# Altium schematic symbol library Digi_Key.SchLib: 15 symbols
Pins are listed as number, name and electrical type; pins without a type are passive.

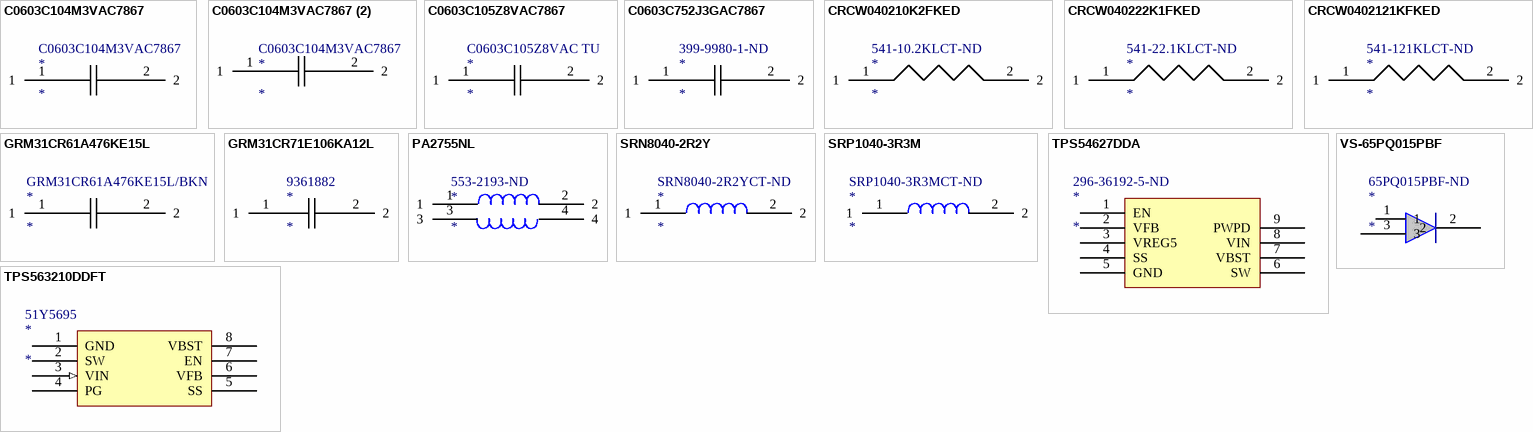
[diagram p0: symbols C0603C104M3VAC7867 to VS-65PQ015PBF]

## C0603C104M3VAC7867
designator *  Supplier Part Number 1: C0603C104M3VAC7867
Cap Ceramic 0.1uF 25V Y5V 20% SMD 0603 85C Paper T/R; Manufacturer: KEMET; Capacitance: 100nF; Supplier 1: Avnet; Manufacturer Part Number: C0603C104M3VAC7867; Stock 1: 244000; Pricing 1: 12000=0.0073, 92000=0.0062, 180000=0.0053 (USD); Mount: Surface Mount; Case/Package: 0603; Dielectric Material: Ceramic; Min Operating Temperature: -30°C; Max Operating Temperature: 85°C; Tolerance: 20%; Packaging: Tape and Reel; Dielectric: Y5V; Voltage Rating (DC): 25V; Length: 1.6mm; Height: 0.8mm; Depth: 0.8mm; Radiation Hardening: No; Lead Free: Lead Free; ComponentLink1URL: http://components.arrow.com/part/dataview/0323_00069656; ComponentLink1Description: http://components.arrow.com/part/dataview/0323_00069656; ComponentLink2URL: http://www.kemet.com/kemet/web/homepage/kechome.nsf/weben/C4DA2DA1D1C9D3C3CA2570A50016092D/$file/KEM_C1002_X7R_SMD.pdf; ComponentLink2Description: http://www.kemet.com/kemet/web/homepage/kechome.nsf/weben/C4DA2DA1D1C9D3C3CA2570A50016092D/$file/KEM_C1002_X7R_SMD.pdf
footprint 0603 (Chip Inductor, Body 0.6x0.3mm, IPC High Density)
pins: 1, 2

## C0603C104M3VAC7867 (2)
designator *  Supplier Part Number 1: C0603C104M3VAC7867
Cap Ceramic 0.1uF 25V Y5V 20% SMD 0603 85C Paper T/R; Manufacturer: KEMET; Capacitance: 100nF; Supplier 1: Avnet; Manufacturer Part Number: C0603C104M3VAC7867; Stock 1: 244000; Pricing 1: 12000=0.0073, 92000=0.0062, 180000=0.0053 (USD); Mount: Surface Mount; Case/Package: 0603; Dielectric Material: Ceramic; Min Operating Temperature: -30°C; Max Operating Temperature: 85°C; Tolerance: 20%; Packaging: Tape and Reel; Dielectric: Y5V; Voltage Rating (DC): 25V; Length: 1.6mm; Height: 0.8mm; Depth: 0.8mm; Radiation Hardening: No; Lead Free: Lead Free; ComponentLink1URL: http://components.arrow.com/part/dataview/0323_00069656; ComponentLink1Description: http://components.arrow.com/part/dataview/0323_00069656; ComponentLink2URL: http://www.kemet.com/kemet/web/homepage/kechome.nsf/weben/C4DA2DA1D1C9D3C3CA2570A50016092D/$file/KEM_C1002_X7R_SMD.pdf; ComponentLink2Description: http://www.kemet.com/kemet/web/homepage/kechome.nsf/weben/C4DA2DA1D1C9D3C3CA2570A50016092D/$file/KEM_C1002_X7R_SMD.pdf
footprint 0603 (Chip Inductor, Body 0.6x0.3mm, IPC High Density)
pins: 1, 2

## C0603C105Z8VAC7867
designator *  Supplier Part Number 1: C0603C105Z8VAC TU
Cap Ceramic 1uF 10V Y5V -20% to 80% SMD 0603 85C T/R; Manufacturer: KEMET; Manufacturer Part Number: C0603C105Z8VAC7867; Supplier 1: Avnet; Stock 1: 144000; Pricing 1: 4000=0.007, 8000=0.0059, 16000=0.0053, 24000=0.0049, 40000=0.0048 (USD); Mount: Surface Mount; Case/Package: 0603; Dielectric Material: Ceramic; Min Operating Temperature: -30°C; Max Operating Temperature: 85°C; Packaging: Tape and Reel; Capacitance: 1uF; Tolerance: 80%; Dielectric: Y5V; Voltage Rating (DC): 10V; Length: 1.6mm; Height: 0.8mm; Depth: 0.8mm; Radiation Hardening: No; Lead Free: Lead Free; ComponentLink1URL: https://datasheet.ciiva.com/18231/getdatasheetpartid-38562-18231271.pdf; ComponentLink1Description: https://datasheet.ciiva.com/18231/getdatasheetpartid-38562-18231271.pdf
footprint 0603 (Chip Inductor, Body 0.6x0.3mm, IPC High Density)
pins: 1, 2

## C0603C752J3GAC7867
designator *  Supplier Part Number 1: 399-9980-1-ND
CAP CER 7500PF 25V C0G/NP0 0603; Manufacturer: KEMET; Manufacturer Part Number: C0603C752J3GAC7867; Tolerance: ±5%; Temperature Coefficient: C0G, NP0; Notification: Current market demand for these product types have resulted in fluctuating and extending lead times. Lead times may differ.; Supplier 1: Digi-Key; RoHS: RoHS Compliant; Category: Capacitors; Stock 1: 36935; Pricing 1: 1=0.47, 10=0.328, 100=0.197, 500=0.14774, 1000=0.12475 (USD); Packaging: Cut Tape (CT); Part Status: Active; Voltage - Rated: 25V; Operating Temperature: -55°C ~ 125°C; Features: Low ESL; Ratings: -; Applications: General Purpose; Failure Rate: -; Mounting Type: Surface Mount, MLCC; Package / Case: 0603 (1608 Metric); Size / Dimension: 0.063" L x 0.032" W (1.60mm x 0.80mm); Height - Seated (Max): -; Thickness (Max): 0.034" (0.87mm); Lead Spacing: -; Lead Style: -; ComponentLink1URL: https://search.kemet.com/component-edge/download/datasheet/C0603C752J3GAC7867.pdf; ComponentLink1Description: https://search.kemet.com/component-edge/download/datasheet/C0603C752J3GAC7867.pdf
footprint 0603 (Chip Inductor, Body 0.6x0.3mm, IPC High Density)
pins: 1, 2

## CRCW040210K2FKED
designator *  Supplier Part Number 1: 541-10.2KLCT-ND
RES SMD 10.2K OHM 1% 1/16W 0402; Manufacturer: Vishay Dale; Manufacturer Part Number: CRCW040210K2FKED; Power (Watts): 0.063W, 1/16W; Temperature Coefficient: ±100ppm/°C; Supplier 1: Digi-Key; RoHS: RoHS Compliant; Category: Resistors; Stock 1: 5773; Pricing 1: 1=0.1, 10=0.044, 100=0.0178, 1000=0.00802, 2500=0.00696, 5000=0.00575 (USD); Packaging: Cut Tape (CT); Part Status: Active; Tolerance: ±1%; Composition: Thick Film; Features: Automotive AEC-Q200; Operating Temperature: -55°C ~ 155°C; Package / Case: 0402 (1005 Metric); Supplier Device Package: 0402; Size / Dimension: 0.039" L x 0.020" W (1.00mm x 0.50mm); Height - Seated (Max): 0.016" (0.40mm); Failure Rate: -; ComponentLink1URL: http://www.vishay.com/docs/20035/dcrcwe3.pdf; ComponentLink1Description: http://www.vishay.com/docs/20035/dcrcwe3.pdf
footprint 0402-CAP
pins: 1, 2

## CRCW040222K1FKED
designator *  Supplier Part Number 1: 541-22.1KLCT-ND
RES SMD 22.1K OHM 1% 1/16W 0402; Manufacturer: Vishay Dale; Manufacturer Part Number: CRCW040222K1FKED; Power (Watts): 0.063W, 1/16W; Temperature Coefficient: ±100ppm/°C; Supplier 1: Digi-Key; RoHS: RoHS Compliant; Category: Resistors; Stock 1: 7344; Pricing 1: 1=0.1, 10=0.044, 100=0.0178, 1000=0.00802, 2500=0.00696, 5000=0.00575 (USD); Packaging: Cut Tape (CT); Part Status: Active; Tolerance: ±1%; Composition: Thick Film; Features: Automotive AEC-Q200; Operating Temperature: -55°C ~ 155°C; Package / Case: 0402 (1005 Metric); Supplier Device Package: 0402; Size / Dimension: 0.039" L x 0.020" W (1.00mm x 0.50mm); Height - Seated (Max): 0.016" (0.40mm); Failure Rate: -; ComponentLink1URL: http://www.vishay.com/docs/20035/dcrcwe3.pdf; ComponentLink1Description: http://www.vishay.com/docs/20035/dcrcwe3.pdf
footprint 0402 (Chip Capacitor, Body 1.0x0.5mm, IPC High Density)
pins: 1, 2

## CRCW0402121KFKED
designator *  Supplier Part Number 1: 541-121KLCT-ND
RES SMD 121K OHM 1% 1/16W 0402; Manufacturer: Vishay Dale; Manufacturer Part Number: CRCW0402121KFKED; Power (Watts): 0.063W, 1/16W; Temperature Coefficient: ±100ppm/°C; Supplier 1: Digi-Key; RoHS: RoHS Compliant; Category: Resistors; Stock 1: 40528; Pricing 1: 1=0.1, 10=0.044, 100=0.0178, 1000=0.00802, 2500=0.00696, 5000=0.00575 (USD); Packaging: Cut Tape (CT); Part Status: Active; Tolerance: ±1%; Composition: Thick Film; Features: Automotive AEC-Q200; Operating Temperature: -55°C ~ 155°C; Package / Case: 0402 (1005 Metric); Supplier Device Package: 0402; Size / Dimension: 0.039" L x 0.020" W (1.00mm x 0.50mm); Height - Seated (Max): 0.016" (0.40mm); Failure Rate: -; ComponentLink1URL: http://www.vishay.com/docs/20035/dcrcwe3.pdf; ComponentLink1Description: http://www.vishay.com/docs/20035/dcrcwe3.pdf
footprint 0402 (Chip Capacitor, Body 1.0x0.5mm, IPC High Density)
pins: 1, 2

## GRM31CR61A476KE15L
designator *  Supplier Part Number 1: GRM31CR61A476KE15L/BKN
Multilayer Ceramic Capacitors MLCC - SMD/SMT 1206 47uF 10Vdc X5R +/-10%; Manufacturer: Murata; Manufacturer Part Number: GRM31CR61A476KE15L; Tolerance: 10%; Voltage Rating: 10V; Supplier 1: Avnet; Stock 1: 0; Pricing 1: 1=0.5079, 40=0.4619, 100=0.3049, 200=0.3039, 500=0.2249 (USD); Mount: Surface Mount; Case/Package: 1206; Case Code (Metric): 3216; Case Code (Imperial): 1206; Material: Ceramic; Min Operating Temperature: -55°C; Max Operating Temperature: 85°C; Package Quantity: 2000; Packaging: Tape and Reel; Capacitance: 47uF; Voltage Rating (DC): 10V; Dielectric: X5R; Termination: SMD/SMT; Voltage: 10V; Length: 3.2mm; Height: 1.6mm; Width: 1.6mm; Thickness: 0.071inch; Depth: 1.6mm; REACH SVHC: No SVHC; Lead Free: Lead Free; ComponentLink1URL: https://datasheet.ciiva.com/41860/partnumbering-e-01-41860758.pdf; ComponentLink1Description: https://datasheet.ciiva.com/41860/partnumbering-e-01-41860758.pdf; ComponentLink2URL: https://datasheet.ciiva.com/29536/grm31cr61a476ke15-01-29536840.pdf; ComponentLink2Description: https://datasheet.ciiva.com/29536/grm31cr61a476ke15-01-29536840.pdf; ComponentLink3URL: https://datasheet.ciiva.com/46445/1769893-46445004.pdf; ComponentLink3Description: https://datasheet.ciiva.com/46445/1769893-46445004.pdf; ComponentLink4URL: https://datasheet.ciiva.com/46445/1769893-46445005.pdf; ComponentLink4Description: https://datasheet.ciiva.com/46445/1769893-46445005.pdf; ComponentLink5URL: https://datasheet.ciiva.com/13337/product-13337807.pdf; ComponentLink5Description: https://datasheet.ciiva.com/13337/product-13337807.pdf
footprint INDC3216 (Chip Inductor, Body 3.2x1.6mm, IPC High Density)
pins: 1, 2

## GRM31CR71E106KA12L
designator *  Supplier Part Number 1: 9361882
Cap Ceramic 10uF 25V X7R 10% SMD 1206 125C T/R; Manufacturer: Murata; Manufacturer Part Number: GRM31CR71E106KA12L; Supplier 1: Future Electronics; Stock 1: 86000; Pricing 1: 2000=0.38 (USD); Mount: Surface Mount; Case/Package: 1206; Number of Pins: 2; Case Code (Imperial): 1206; Case Code (Metric): 3216; Material: Ceramic; Min Operating Temperature: -55°C; Max Operating Temperature: 125°C; Capacitance: 10uF; Tolerance: 10%; Dielectric: X7R; Voltage Rating: 25V; Voltage Rating (DC): 25V; Packaging: Tape and Reel; Package Quantity: 1; Termination: SMD/SMT; Voltage: 25V; Length: 3.2mm; Height: 1.6mm; Width: 1.6mm; Thickness: 0.071inch; Depth: 1.6mm; Radiation Hardening: No; REACH SVHC: No SVHC; Lead Free: Lead Free; ComponentLink1URL: https://datasheet.ciiva.com/5418/product-5418961.pdf; ComponentLink1Description: https://datasheet.ciiva.com/5418/product-5418961.pdf; ComponentLink2URL: https://datasheet.ciiva.com/22746/415311-22746465.pdf; ComponentLink2Description: https://datasheet.ciiva.com/22746/415311-22746465.pdf; ComponentLink3URL: https://datasheet.ciiva.com/22703/1747484-22703378.pdf; ComponentLink3Description: https://datasheet.ciiva.com/22703/1747484-22703378.pdf; ComponentLink4URL: https://datasheet.ciiva.com/11789/0900766b80ef921d-11789064.pdf; ComponentLink4Description: https://datasheet.ciiva.com/11789/0900766b80ef921d-11789064.pdf; ComponentLink5URL: https://datasheet.ciiva.com/16210/partnumbering-e-01-16210776.pdf; ComponentLink5Description: https://datasheet.ciiva.com/16210/partnumbering-e-01-16210776.pdf; ComponentLink6URL: https://datasheet.ciiva.com/14116/grmseries-highdielectrictype-eng-14116377.pdf; ComponentLink6Description: https://datasheet.ciiva.com/14116/grmseries-highdielectrictype-eng-14116377.pdf; ComponentLink7URL: https://datasheet.ciiva.com/6264/partnumbering-e-01-6264458.pdf; ComponentLink7Description: https://datasheet.ciiva.com/6264/partnumbering-e-01-6264458.pdf; ComponentLink8URL: https://datasheet.ciiva.com/3777/4378grm31cr71e106ka1223-3777275.pdf; ComponentLink8Description: https://datasheet.ciiva.com/3777/4378grm31cr71e106ka1223-3777275.pdf; ComponentLink9URL: https://datasheet.ciiva.com/22774/415311-22774043.pdf; ComponentLink9Description: https://datasheet.ciiva.com/22774/415311-22774043.pdf; ComponentLink10URL: https://datasheet.ciiva.com/6264/partnumbering-e-01-6264460.pdf; ComponentLink10Description: https://datasheet.ciiva.com/6264/partnumbering-e-01-6264460.pdf; ComponentLink11URL: https://datasheet.ciiva.com/22774/415311-22774044.pdf; ComponentLink11Description: https://datasheet.ciiva.com/22774/415311-22774044.pdf; ComponentLink12URL: https://datasheet.ciiva.com/6264/partnumbering-e-01-6264462.pdf; ComponentLink12Description: https://datasheet.ciiva.com/6264/partnumbering-e-01-6264462.pdf; ComponentLink13URL: https://datasheet.ciiva.com/29199/454935-da-01-en-vs-kondensator-1206-29199424.pdf; ComponentLink13Description: https://datasheet.ciiva.com/29199/454935-da-01-en-vs-kondensator-1206-29199424.pdf; ComponentLink14URL: https://datasheet.ciiva.com/29202/451104-da-01-de-vs-chip-kond-1206-10-0-uf-10pr-25-0v-x7r-29202596.pdf; ComponentLink14Description: https://datasheet.ciiva.com/29202/451104-da-01-de-vs-chip-kond-1206-10-0-uf-10pr-25-0v-x7r-29202596.pdf
footprint INDC3216 (Chip Inductor, Body 3.2x1.6mm, IPC High Density)
pins: 1, 2

## PA2755NL
designator *  Supplier Part Number 1: 553-2193-ND
COMMON MODE CHOKE 14A 2LN SMD; Manufacturer: Pulse Electronics Power; Manufacturer Part Number: PA2755NL; Number of Lines: 2; DC Resistance (DCR) (Max): 1.95 mOhm; Supplier 1: Digi-Key; RoHS: RoHS Compliant; Category: Filters; Stock 1: 1352; Pricing 1: 1=3.45, 10=3.163, 100=2.07, 500=1.84, 1000=1.725, 2500=1.6675 (USD); Packaging: Tube; Part Status: Active; Filter Type: -; Current Rating (Max): 14A; Voltage Rating - DC: -; Voltage Rating - AC: -; Operating Temperature: -40°C ~ 130°C; Ratings: -; Approvals: -; Features: -; Mounting Type: Surface Mount; Size / Dimension: 0.750" L x 0.815" W (19.05mm x 20.70mm); Height (Max): 0.440" (11.18mm); Package / Case: Horizontal, 4 PC Pad; ComponentLink1URL: http://productfinder.pulseeng.com/products/datasheets/P688.pdf; ComponentLink1Description: http://productfinder.pulseeng.com/products/datasheets/P688.pdf
footprint Makeni (DFN, 4-Leads, Body 12.50x20.50mm, Pitch 17.02mm, IPC Medium Density)
pins: 1, 2, 3, 4

## SRN8040-2R2Y
designator *  Supplier Part Number 1: SRN8040-2R2YCT-ND
FIXED IND 2.2UH 6.3A 13 MOHM SMD; Manufacturer: Bourns Inc.; Manufacturer Part Number: SRN8040-2R2Y; Material - Core: Ferrite; Tolerance: ±30%; Shielding: Semi-Shielded; DC Resistance (DCR): 13 mOhm Max; Q @ Freq: 13 @ 7.96MHz; Supplier 1: Digi-Key; RoHS: RoHS Compliant; Category: Inductors, Coils, Chokes; Stock 1: 10441; Pricing 1: 1=0.63, 10=0.547, 100=0.391, 500=0.32844 (USD); Packaging: Cut Tape (CT); Part Status: Active; Type: Wirewound; Ratings: -; Operating Temperature: -40°C ~ 125°C; Mounting Type: Surface Mount; Package / Case: Nonstandard; Supplier Device Package: -; Size / Dimension: 0.315" L x 0.315" W (8.00mm x 8.00mm); Height - Seated (Max): 0.157" (4.00mm); ComponentLink1URL: http://www.bourns.com/docs/Product-Datasheets/SRN8040.pdf; ComponentLink1Description: http://www.bourns.com/docs/Product-Datasheets/SRN8040.pdf
footprint SRN8040 (Chip Inductor, 2-Leads, Body 8.20x8.15mm, IPC Medium Density)
pins: 1, 2

## SRP1040-3R3M
designator *  Supplier Part Number 1: SRP1040-3R3MCT-ND
FIXED IND 3.3UH 10A 10 MOHM SMD; Manufacturer: Bourns Inc.; Manufacturer Part Number: SRP1040-3R3M; Material - Core: Iron; Tolerance: ±20%; Shielding: Shielded; DC Resistance (DCR): 10 mOhm Max; Supplier 1: Digi-Key; RoHS: RoHS Compliant; Category: Inductors, Coils, Chokes; Stock 1: 575; Pricing 1: 1=1.43, 10=1.32, 100=0.9237 (USD); Packaging: Cut Tape (CT); Part Status: Active; Type: -; Q @ Freq: -; Ratings: -; Operating Temperature: -55°C ~ 150°C; Mounting Type: Surface Mount; Package / Case: Nonstandard; Supplier Device Package: -; Size / Dimension: 0.465" L x 0.413" W (11.80mm x 10.50mm); Height - Seated (Max): 0.165" (4.20mm); ComponentLink1URL: http://www.bourns.com/docs/Product-Datasheets/SRP1040.pdf; ComponentLink1Description: http://www.bourns.com/docs/Product-Datasheets/SRP1040.pdf
footprint SRP1040 (Chip Inductor, 2-Leads, Body 11.00x10.00mm, IPC Medium Density)
pins: 1, 2

## TPS54627DDA
designator *  Supplier Part Number 1: 296-36192-5-ND
IC REG BUCK ADJ 6A SYNC 8SOPWR; Manufacturer: Texas Instruments; Manufacturer Part Number: TPS54627DDA; Function: Step-Down; Output Configuration: Positive; Output Type: Adjustable; Number of Outputs: 1; Voltage - Input (Min): 4.5V; Voltage - Input (Max): 18V; Voltage - Output (Min/Fixed): 0.765V; Voltage - Output (Max): 5.5V; Frequency - Switching: 650kHz; Synchronous Rectifier: Yes; Supplier 1: Digi-Key; RoHS: RoHS Compliant; Category: Integrated Circuits (ICs); Stock 1: 282; Pricing 1: 1=2.94, 10=2.639, 100=2.1626, 500=1.84094, 1000=1.5526 (USD); Packaging: Tube; Part Status: Active; Topology: Buck; Current - Output: 6A; Operating Temperature: -40°C ~ 85°C (TA); Mounting Type: Surface Mount; Package / Case: 8-PowerSOIC (0.154", 3.90mm Width); Supplier Device Package: 8-SO PowerPad; Base Part Number: TPS54627; ComponentLink1URL: http://www.ti.com/lit/ds/symlink/tps54627.pdf; ComponentLink1Description: http://www.ti.com/lit/ds/symlink/tps54627.pdf
footprint SOIC127P600X170_HS-9N (SOIC, 8-Leads, Body 4.90x4.90mm, Pitch 1.27mm, Thermal Pad 3.10x2.40mm, IPC Medium Density)
pins: 1 EN, 2 VFB, 3 VREG5, 4 SS, 5 GND, 6 SW, 7 VBST, 8 VIN, 9 PWPD

## TPS563210DDFT
designator *  Supplier Part Number 1: 51Y5695
TEXAS INSTRUMENTS - TPS563210DDFT - DC/DC CONV, SYNC BUCK, 650KHZ, SOT-23-8; Topology: Synchronous Buck (Step Down); Input Voltage Min: 4.5; Input Voltage Max: 17; No. of Outputs: 1; DC / DC Converter IC Case: SOT-23; No. of Pins: 8; Output Current: 3; Supplier 1: Newark; Manufacturer: TEXAS INSTRUMENTS; Manufacturer Part Number: TPS563210DDFT; RoHS: YES; Stock 1: 60; Pricing 1: 1=1.92, 10=1.63, 25=1.52, 50=1.41, 100=1.3 (USD); ComponentLink1URL: http://www.ti.com/general/docs/lit/getliterature.tsp?genericPartNumber=TPS563210&amp;&amp;fileType=pdf; ComponentLink1Description: http://www.ti.com/general/docs/lit/getliterature.tsp?genericPartNumber=TPS563210&amp;&amp;fileType=pdf
footprint SOT23-8
pins: 1 GND, 2 SW, 3 VIN (in), 4 PG, 5 SS, 6 VFB, 7 EN, 8 VBST

## VS-65PQ015PBF
designator *  Supplier Part Number 1: 65PQ015PBF-ND
DIODE SCHOTTKY 15V 65A TO247AC; Manufacturer: Vishay Semiconductor Diodes Division; Manufacturer Part Number: VS-65PQ015PBF; Speed: Fast Recovery =< 500ns, > 200mA (Io); Supplier 1: Digi-Key; RoHS: RoHS Compliant; Category: Discrete Semiconductor Products; Stock 1: 478; Pricing 1: 1=4.17, 10=3.749, 25=3.5436, 100=3.0713, 250=2.91376, 500=2.6145, 1000=2.205 (USD); Packaging: Tube; Part Status: Active; Diode Type: Schottky; Current - Average Rectified (Io): 65A; Capacitance @ Vr, F: -; Mounting Type: Through Hole; Package / Case: TO-247-3; Supplier Device Package: TO-247AC; Operating Temperature - Junction: -55°C ~ 125°C; Base Part Number: *; ComponentLink1URL: http://www.vishay.com/docs/94246/vs-65pq015p.pdf; ComponentLink1Description: http://www.vishay.com/docs/94246/vs-65pq015p.pdf
footprint TO247AC
pins: 1, 2, 3